# Altium schematic symbol library Header4.SchLib: 1 symbol
Pins are listed as number, name and electrical type; pins without a type are passive.

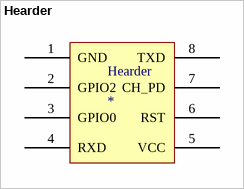
[diagram p0: symbol Hearder]

## Hearder
designator Hearder
pins: 1 GND, 2 GPIO2, 3 GPIO0, 4 RXD, 5 VCC, 6 RST, 7 CH_PD, 8 TXD